# EAGLE library part SAMACSYS_PARTS_IS66WVH16M8BLL-100B1LI (library goJAMMAv02)
DRAM 128Mb 16Mbx8 3.0V 100MHz HyperRAM Source: Datasheet <https://componentsearchengine.com/Datasheets/1/IS66WVH16M8BLL-100B1LI.pdf>
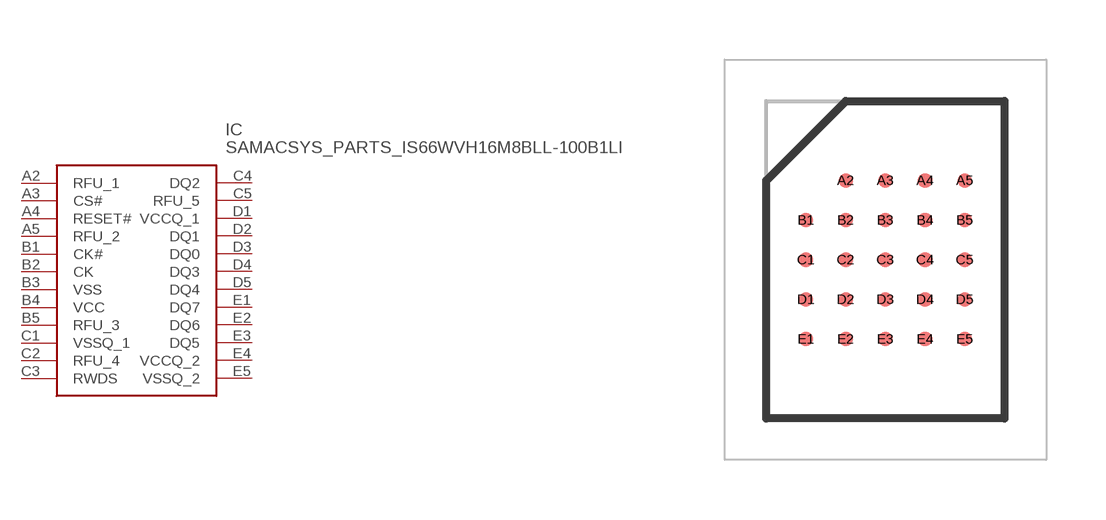
[diagram p6: symbol with the pads of SAMACSYS_PARTS_BGA24C100P5X5_600X800X120; footprint SAMACSYS_PARTS_BGA24C100P5X5_600X800X120]

Designator prefix IC

## SAMACSYS_PARTS_IS66WVH16M8BLL-100B1LI (DESCRIPTION: DRAM 128Mb 16Mbx8 3.0V 100MHz HyperRAM; HEIGHT: 1.2mm; MANUFACTURER_NAME: Integrated Silicon Solution Inc.; MANUFACTURER_PART_NUMBER: IS66WVH16M8BLL-100B1LI; MOUSER_PART_NUMBER: 870-WVH16M8BL100B1LI)  [SAMACSYS_PARTS_BGA24C100P5X5_600X800X120]
A2  RFU_1
A3  CS#
A4  RESET#
A5  RFU_2
B1  CK#
B2  CK
B3  VSS
B4  VCC
B5  RFU_3
C1  VSSQ_1
C2  RFU_4
C3  RWDS
C4  DQ2
C5  RFU_5
D1  VCCQ_1
D2  DQ1
D3  DQ0
D4  DQ3
D5  DQ4
E1  DQ7
E2  DQ6
E3  DQ5
E4  VCCQ_2
E5  VSSQ_2

## Footprint SAMACSYS_PARTS_BGA24C100P5X5_600X800X120 (pad centres in mm)
TF-BGA-24
smd 0.37 x 0.37: A2 -1,2; A3 0,2; A4 1,2; A5 2,2; B1 -2,1; B2 -1,1; B3 0,1; B4 1,1; B5 2,1; C1 -2,0; C2 -1,0; C3 0,0; C4 1,0; C5 2,0; D1 -2,-1; D2 -1,-1; D3 0,-1; D4 1,-1; D5 2,-1; E1 -2,-2; E2 -1,-2; E3 0,-2; E4 1,-2; E5 2,-2